# Altium footprint library Watch_Components.PcbLib: 16 footprints
Each footprint in its own frame and in the unit in brackets; x right, y up, seen from the top. Pads: shape width x height; smd on the part's side, far side on the other; paste and mask are expansions set on the pad; w line width, h text height; cw(c..) or ccw(c..) is an arc to the next point about the centre after c.
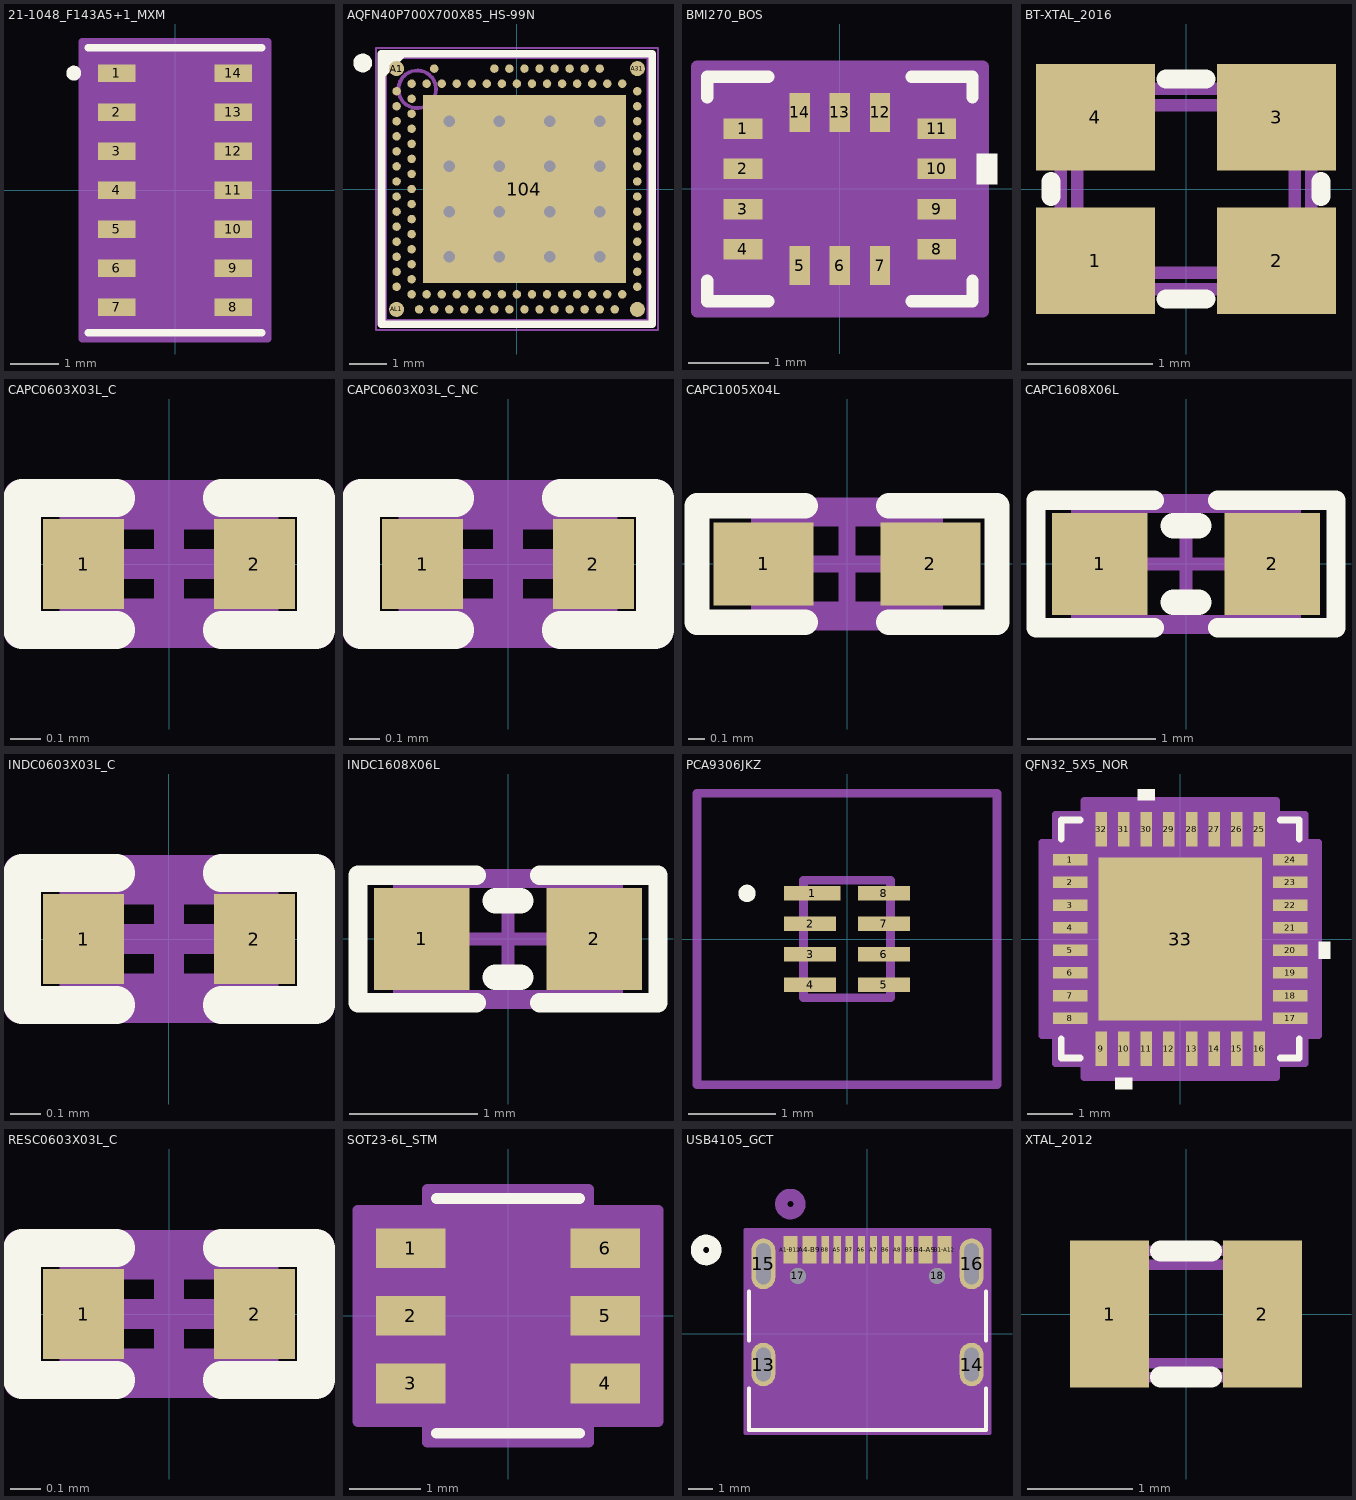
[diagram p0: the footprints below, top view; thin cyan lines are the x and y axes]

## 21-1048_F143A5+1_MXM [mil]
pads (14):
  rect 30x14 smd paste+0 mask+0: 1(-47,94.49) 2(-47,62.99) 3(-47,31.5) 4(-47,0) 5(-47,-31.5) 6(-47,-62.99) 7(-47,-94.49) 8(47,-94.49) 9(47,-62.99) 10(47,-31.5) 11(47,0) 12(47,31.5) 13(47,62.99) 14(47,94.49)
Top Overlay:
  circle w6: c-81.75,94.49 r3
  lines w6: -70,-115 70,-115 ; -70,115 70,115
Mechanical 13:
  circle w6: c-32,94.49 r3
  lines w1: -12,110 ccw(c0,110) 12,110 ; -65,-110 -65,110 65,110 65,-110 -65,-110
Mechanical 15:
  region: -75,-111.49 -75,111.49 -75,120 75,120 75,111.49 75,-111.49 75,-120 -75,-120
  lines w6: -75,-120 75,-120 75,-111.49 75,111.49 75,120 -75,120 -75,111.49 -75,-111.49 -75,-120
3D body "21-1048_F143A5+1_MXM.step": height 65.12, standoff 0, extent -65,-110 65,110

## AQFN40P700X700X85_HS-99N [mm] "AQFN, 98-Leads, Body 7.00x7.00mm, Pitch 0.40mm, Thermal Pad 5.4x5.0mm, IPC Medium Density"
height 0.85
pads (115):
  rect 5.4x5 smd paste-5: 104(0.2,0)
  round 0.4 smd paste+0.012: A1(-3.2,3.2) A31(3.2,3.2) AL1(-3.2,-3.2) AL31(3.2,-3.2)
  round 0.225 smd paste+0.012: A5(-2.2,3.2) A13(-0.6,3.2) A15(-0.2,3.2) A17(0.2,3.2) A19(0.6,3.2) A21(1,3.2) A23(1.4,3.2) A25(1.8,3.2) A27(2.2,3.2) AA1(-3.2,-1) AA31(3.2,-1) AB2(-2.8,-1.2) AC1(-3.2,-1.4) AC31(3.2,-1.4) AD2(-2.8,-1.6) AE1(-3.2,-1.8) AE31(3.2,-1.8) AF2(-2.8,-2) AG1(-3.2,-2.2) AG31(3.2,-2.2) AH2(-2.8,-2.4) AJ1(-3.2,-2.6) AJ31(3.2,-2.6) AK2(-2.8,-2.8) AK4(-2.4,-2.8) AK6(-2,-2.8) AK8(-1.6,-2.8) AK10(-1.2,-2.8) AK12(-0.8,-2.8) AK14(-0.4,-2.8) AK16(0,-2.8) AK18(0.4,-2.8) AK20(0.8,-2.8) AK22(1.2,-2.8) AK24(1.6,-2.8) AK26(2,-2.8) AK28(2.4,-2.8) AK30(2.8,-2.8) AL3(-2.6,-3.2) AL5(-2.2,-3.2) AL7(-1.8,-3.2) AL9(-1.4,-3.2) AL11(-1,-3.2) AL13(-0.6,-3.2) AL15(-0.2,-3.2) AL17(0.2,-3.2) AL19(0.6,-3.2) AL21(1,-3.2) AL23(1.4,-3.2) AL25(1.8,-3.2) AL27(2.2,-3.2) AL29(2.6,-3.2) B2(-2.8,2.8) B4(-2.4,2.8) B6(-2,2.8) B8(-1.6,2.8) B10(-1.2,2.8) B12(-0.8,2.8) B14(-0.4,2.8) B16(0,2.8) B18(0.4,2.8) B20(0.8,2.8) B22(1.2,2.8) B24(1.6,2.8) B26(2,2.8) B28(2.4,2.8) B30(2.8,2.8) C1(-3.2,2.6) C31(3.2,2.6) D2(-2.8,2.4) E1(-3.2,2.2) E31(3.2,2.2) F2(-2.8,2) G1(-3.2,1.8) G31(3.2,1.8) H2(-2.8,1.6) J1(-3.2,1.4) J31(3.2,1.4) K2(-2.8,1.2) L1(-3.2,1) L31(3.2,1) M2(-2.8,0.8) N1(-3.2,0.6) N31(3.2,0.6) P2(-2.8,0.4) R1(-3.2,0.2) R31(3.2,0.2) T2(-2.8,0) U1(-3.2,-0.2) U31(3.2,-0.2) V2(-2.8,-0.4) W1(-3.2,-0.6) W31(3.2,-0.6) Y2(-2.8,-0.8)
  rrect15% 1.1x1 on Top Paste: ""(-1.75,-1.8) ""(-1.75,-0.6) ""(-1.75,0.6) ""(-1.75,1.8) ""(-0.45,-1.8) ""(-0.45,-0.6) ""(-0.45,0.6) ""(-0.45,1.8) ""(0.85,-1.8) ""(0.85,-0.6) ""(0.85,0.6) ""(0.85,1.8) ""(2.15,-1.8) ""(2.15,-0.6) ""(2.15,0.6) ""(2.15,1.8)
via 2.2,-1.8 diameter 0.61 hole 0.305
via 0.867,-1.8 diameter 0.61 hole 0.305
via -0.467,-1.8 diameter 0.61 hole 0.305
via -1.8,-1.8 diameter 0.61 hole 0.305
via 2.2,-0.6 diameter 0.61 hole 0.305
via 0.867,-0.6 diameter 0.61 hole 0.305
via -0.467,-0.6 diameter 0.61 hole 0.305
via -1.8,-0.6 diameter 0.61 hole 0.305
via 2.2,0.6 diameter 0.61 hole 0.305
via 0.867,0.6 diameter 0.61 hole 0.305
via -0.467,0.6 diameter 0.61 hole 0.305
via -1.8,0.6 diameter 0.61 hole 0.305
via 2.2,1.8 diameter 0.61 hole 0.305
via 0.867,1.8 diameter 0.61 hole 0.305
via -0.467,1.8 diameter 0.61 hole 0.305
via -1.8,1.8 diameter 0.61 hole 0.305
Top Overlay:
  circle w0.25: c-4.1,3.35 r0.125
  region: -3,3.5 -3.5,3 -3.5,3.5
  lines w0.2: -3.6,-3.6 3.6,-3.6 3.6,3.6 -3.6,3.6 -3.6,-3.6
Mechanical 7:
  circle w0.1: c-2.65,2.65 r0.5
  lines w0.1: -3.5,-3.5 -3.5,3.5 3.5,3.5 3.5,-3.5 -3.5,-3.5
  text ".Designator" at -3.2,-0.3 h0.64
Mechanical 15:
  lines w0.05: -3.75,-3.75 -3.75,3.75 3.75,3.75 3.75,-3.75 -3.75,-3.75
  lines w0.1: -0.3,0 0.7,0 ; 0.2,-0.5 0.2,0.5
3D body "aQFN-94.sldprt": height 0.85, standoff 0, extent -3.5,-3.5 3.5,3.5

## BMI270_BOS [mil]
pads (14):
  rect 19x10 smd paste+0 mask+0: 1(-47.5,29.53) 2(-47.5,9.84) 3(-47.5,-9.84) 4(-47.5,-29.53) 8(47.5,-29.53) 9(47.5,-9.84) 10(47.5,9.84) 11(47.5,29.53)
  rect 10x19 smd paste+0 mask+0: 5(-19.68,-37.5) 6(0,-37.5) 7(19.68,-37.5) 12(19.68,37.5) 13(0,37.5) 14(-19.68,37.5)
Top Overlay:
  region: 67,17.34 77,17.34 77,2.34 67,2.34
  lines w6: -65,-44.9 -65,-55 -35.06,-55 ; -65,44.9 -65,55 -35.06,55 ; 35.06,-55 65,-55 65,-44.9 ; 35.06,55 65,55 65,44.9
Mechanical 13:
  lines w1: -60,0 -10,50 ; -60,-50 60,-50 60,50 -60,50 -60,-50 ; -60,-34.53 -60,-24.53 -57,-24.53 -57,-34.53 -60,-34.53 ; -60,-14.84 -60,-4.84 -57,-4.84 -57,-14.84 -60,-14.84 ; -60,4.84 -60,14.84 -57,14.84 -57,4.84 -60,4.84 ; -60,24.53 -60,34.53 -57,34.53 -57,24.53 -60,24.53 ; -24.68,-50 -14.69,-50 -14.69,-47 -24.68,-47 -24.68,-50 ; -24.68,47 -14.69,47 -14.69,50 -24.68,50 -24.68,47 ; -5,-50 5,-50 5,-47 -5,-47 -5,-50 ; -5,47 5,47 5,50 -5,50 -5,47 ; 14.69,-50 24.68,-50 24.68,-47 14.69,-47 14.69,-50 ; 14.69,47 24.68,47 24.68,50 14.69,50 14.69,47 ; 57,-34.53 60,-34.53 60,-24.53 57,-24.53 57,-34.53 ; 57,-14.84 60,-14.84 60,-4.84 57,-4.84 57,-14.84 ; 57,4.84 60,4.84 60,14.84 57,14.84 57,4.84 ; 57,24.53 60,24.53 60,34.53 57,34.53 57,24.53
  text "*" at -50.5,14.37 h50
Mechanical 15:
  region: -34.69,-60 -70,-60 -70,-44.53 -70,44.53 -70,60 -34.69,60 34.69,60 70,60 70,44.53 70,-44.53 70,-60 34.69,-60
  lines w6: -70,-60 -70,-44.53 -70,44.53 -70,60 -34.69,60 34.69,60 70,60 70,44.53 70,-44.53 70,-60 34.69,-60 -34.69,-60 -70,-60
3D body "BMI270_BOS.step": height 34.09, standoff 0, extent -60,-50 60,50

## BT-XTAL_2016 [mm]
pads (4):
  rect 0.95x0.85 smd: 1(-0.725,-0.575) 2(0.725,-0.575) 3(0.725,0.575) 4(-0.725,0.575)
Top Overlay:
  lines w0.152: -1.08,-0.06 -1.08,0.06 ; -0.16,-0.88 0.16,-0.88 ; -0.16,0.88 0.16,0.88 ; 1.08,-0.06 1.08,0.06
Mechanical 7:
  lines w0.1: -1,-0.7 cw(c-1,-0.8) -0.9,-0.8 0.9,-0.8 cw(c1,-0.8) 1,-0.7 1,0.7 cw(c1,0.8) 0.9,0.8 -0.9,0.8 cw(c-1,0.8) -1,0.7 -1,-0.7 ; -0.87,-0.57 ccw(c-0.77,-0.57) -0.77,-0.67 0.77,-0.67 ccw(c0.77,-0.57) 0.87,-0.57 0.87,0.57 ccw(c0.77,0.57) 0.77,0.67 -0.77,0.67 ccw(c-0.77,0.57) -0.87,0.57 -0.87,-0.57
3D body "User Library-GeyerElectronics_KX5.step": height 0.56, standoff 0, extent -1.05,-0.85 1.05,0.85
3D body: height 0.56, standoff 0.15, extent -0.7,-0.65 0.7,0.65

## CAPC0603X03L_C [mm]
pads (2):
  rect 0.27x0.3 smd: 1(-0.285,0) 2(0.285,0)
Top Overlay:
  lines w0.125: -0.175,-0.22 -0.49,-0.22 -0.49,0.22 -0.175,0.22 ; 0.175,-0.22 0.49,-0.22 0.49,0.22 0.175,0.22
Mechanical 7:
  lines w0.1: -0.315,-0.165 -0.315,0.165 0.315,0.165 0.315,-0.165 -0.315,-0.165
Mechanical 15:
  lines w0.1: -0.165,0 0.165,0 ; 0,-0.165 0,0.165 ; -0.5,-0.23 -0.5,0.23 0.5,0.23 0.5,-0.23 -0.5,-0.23
3D body "User Library-0201(0603M) Cap.step": height 0.3, standoff -0.01, extent -0.305,-0.152 0.305,0.153

## CAPC0603X03L_C_NC [mm]
pads (2):
  rect 0.27x0.3 smd mask+0.05: 1(-0.285,0) 2(0.285,0)
Top Overlay:
  lines w0.125: -0.175,-0.22 -0.49,-0.22 -0.49,0.22 -0.175,0.22 ; 0.175,-0.22 0.49,-0.22 0.49,0.22 0.175,0.22
Mechanical 7:
  lines w0.1: -0.315,-0.165 0.315,-0.165 0.315,0.165 -0.315,0.165 -0.315,-0.165
Mechanical 15:
  lines w0.1: -0.165,0 0.165,0 ; 0,-0.165 0,0.165 ; -0.5,-0.23 0.5,-0.23 0.5,0.23 -0.5,0.23 -0.5,-0.23

## CAPC1005X04L [mm]
pads (2):
  rect 0.6x0.5 smd: 1(-0.5,0) 2(0.5,0)
Top Overlay:
  lines w0.152: -0.25,-0.35 -0.9,-0.35 -0.9,0.35 -0.25,0.35 ; 0.25,-0.35 0.9,-0.35 0.9,0.35 0.25,0.35
Mechanical 7:
  lines w0.1: -0.525,-0.275 -0.525,0.275 0.525,0.275 0.525,-0.275 -0.525,-0.275
Mechanical 15:
  lines w0.1: -0.275,0 0.275,0 ; 0,-0.275 0,0.275 ; -0.9,-0.35 0.9,-0.35 0.9,0.35 -0.9,0.35 -0.9,-0.35
3D body "User Library-0402(1005M) Cap.step": height 0.5, standoff -0.01, extent -0.508,-0.254 0.508,0.254

## CAPC1608X06L [mm]
pads (2):
  rect 0.75x0.8 smd: 1(-0.675,0) 2(0.675,0)
Top Overlay:
  lines w0.152: -0.25,-0.5 -1.175,-0.5 -1.175,0.5 -0.25,0.5 ; 0.25,-0.5 1.175,-0.5 1.175,0.5 0.25,0.5
  lines w0.2: -0.1,-0.3 0.1,-0.3 ; -0.1,0.3 0.1,0.3
Mechanical 7:
  lines w0.1: -0.85,-0.45 0.85,-0.45 0.85,0.45 -0.85,0.45 -0.85,-0.45
Mechanical 15:
  lines w0.1: -0.45,0 0.45,0 ; 0,-0.45 0,0.45 ; -1.175,-0.5 -1.175,0.5 1.175,0.5 1.175,-0.5 -1.175,-0.5
3D body "User Library-Chip Capacitor 0603.step": height 0.8, standoff 0, extent -0.8,-0.43 0.8,0.43

## INDC0603X03L_C [mm]
pads (2):
  rect 0.27x0.3 smd: 1(-0.285,0) 2(0.285,0)
Top Overlay:
  lines w0.125: -0.175,-0.22 -0.49,-0.22 -0.49,0.22 -0.175,0.22 ; 0.175,-0.22 0.49,-0.22 0.49,0.22 0.175,0.22
Mechanical 7:
  lines w0.1: -0.315,-0.165 0.315,-0.165 0.315,0.165 -0.315,0.165 -0.315,-0.165
Mechanical 15:
  lines w0.1: -0.165,0 0.165,0 ; 0,-0.165 0,0.165 ; -0.5,-0.23 0.5,-0.23 0.5,0.23 -0.5,0.23 -0.5,-0.23
3D body "User Library-smt_inductor-0201.step": height 0.26, standoff -0.01, extent -0.31,-0.16 0.31,0.16

## INDC1608X06L [mm]
pads (2):
  rect 0.75x0.8 smd: 1(-0.675,0) 2(0.675,0)
Top Overlay:
  lines w0.152: -0.25,-0.5 -1.175,-0.5 -1.175,0.5 -0.25,0.5 ; 0.25,-0.5 1.175,-0.5 1.175,0.5 0.25,0.5
  lines w0.2: -0.1,-0.3 0.1,-0.3 ; -0.1,0.3 0.1,0.3
Mechanical 7:
  lines w0.1: -0.85,-0.45 0.85,-0.45 0.85,0.45 -0.85,0.45 -0.85,-0.45
Mechanical 15:
  lines w0.1: -0.45,0 0.45,0 ; 0,-0.45 0,0.45 ; -1.175,-0.5 -1.175,0.5 1.175,0.5 1.175,-0.5 -1.175,-0.5
3D body "User Library-Chip Inductor.step": height 0.8, standoff 0, extent -0.8,-0.475 0.8,0.475

## PCA9306JKZ [mm]
pads (8):
  rect 0.65x0.17 smd: 1(-0.4,0.525)
  rect 0.6x0.17 smd: 2(-0.425,0.175) 3(-0.425,-0.175) 4(-0.425,-0.525) 5(0.425,-0.525) 6(0.425,-0.175) 7(0.425,0.175) 8(0.425,0.525)
Top Overlay:
  lines w0.1: -1.2,0.525 ccw(c-1.15,0.525) -1.1,0.525 ccw(c-1.15,0.525) -1.2,0.525
Mechanical 15:
  lines w0.1: -0.5,-0.675 0.5,-0.675 0.5,0.675 -0.5,0.675 -0.5,-0.675
Mechanical 20:
  lines w0.1: -1.725,-1.675 1.725,-1.675 1.725,1.675 -1.725,1.675 -1.725,-1.675

## QFN32_5X5_NOR [mil]
pads (33):
  rect 30x10 smd paste+0 mask+0: 1(-95.5,68.9) 2(-95.5,49.21) 3(-95.5,29.53) 4(-95.5,9.84) 5(-95.5,-9.84) 6(-95.5,-29.53) 7(-95.5,-49.21) 8(-95.5,-68.9) 17(95.5,-68.9) 18(95.5,-49.21) 19(95.5,-29.53) 20(95.5,-9.84) 21(95.5,9.84) 22(95.5,29.53) 23(95.5,49.21) 24(95.5,68.9)
  rect 10x30 smd paste+0 mask+0: 9(-68.9,-95.5) 10(-49.21,-95.5) 11(-29.53,-95.5) 12(-9.84,-95.5) 13(9.84,-95.5) 14(29.53,-95.5) 15(49.21,-95.5) 16(68.9,-95.5) 25(68.9,95.5) 26(49.21,95.5) 27(29.53,95.5) 28(9.84,95.5) 29(-9.84,95.5) 30(-29.53,95.5) 31(-49.21,95.5) 32(-68.9,95.5)
  rect 142x142 smd paste-71 mask+0: 33(0,0)
Top Overlay:
  region: -41.71,-120.5 -56.71,-120.5 -56.71,-130.5 -41.71,-130.5
  region: 120.5,-2.34 130.5,-2.34 130.5,-17.34 120.5,-17.34
  region: -22.03,120.5 -37.03,120.5 -37.03,130.5 -22.03,130.5
  lines w6: -103.5,-87 -103.5,-103.5 -87,-103.5 ; -103.5,87 -103.5,103.5 -87,103.5 ; 87,-103.5 103.5,-103.5 103.5,-87 ; 87,103.5 103.5,103.5 103.5,87
Top Paste:
  region: -3.94,67.06 -67.06,67.06 -67.06,3.94 -3.94,3.94
  region: -3.94,-3.94 -67.06,-3.94 -67.06,-67.06 -3.94,-67.06
  region: 67.06,67.06 3.94,67.06 3.94,3.94 67.06,3.94
  region: 67.06,-3.94 3.94,-3.94 3.94,-67.06 67.06,-67.06
Mechanical 13:
  lines w1: -98.5,48.5 -48.5,98.5 ; -98.5,-98.5 98.5,-98.5 98.5,98.5 -98.5,98.5 -98.5,-98.5 ; -98.5,-74.9 -98.5,-62.9 -98.5,-74.9 ; -98.5,-55.21 -98.5,-43.21 -98.5,-55.21 ; -98.5,-35.53 -98.5,-23.53 -98.5,-35.53 ; -98.5,-15.84 -98.5,-3.84 -98.5,-15.84 ; -98.5,3.84 -98.5,15.84 -98.5,3.84 ; -98.5,23.53 -98.5,35.53 -98.5,23.53 ; -98.5,43.21 -98.5,55.21 -98.5,43.21 ; -98.5,62.9 -98.5,74.9 -98.5,62.9 ; -74.9,-98.5 -62.9,-98.5 -74.9,-98.5 ; -74.9,98.5 -62.9,98.5 -74.9,98.5 ; -55.21,-98.5 -43.21,-98.5 -55.21,-98.5 ; -55.21,98.5 -43.21,98.5 -55.21,98.5 ; -35.53,-98.5 -23.53,-98.5 -35.53,-98.5 ; -35.53,98.5 -23.53,98.5 -35.53,98.5 ; -15.84,-98.5 -3.84,-98.5 -15.84,-98.5 ; -15.84,98.5 -3.84,98.5 -15.84,98.5 ; 3.84,-98.5 15.84,-98.5 3.84,-98.5 ; 3.84,98.5 15.84,98.5 3.84,98.5 ; 23.53,-98.5 35.53,-98.5 23.53,-98.5 ; 23.53,98.5 35.53,98.5 23.53,98.5 ; 43.21,-98.5 55.21,-98.5 43.21,-98.5 ; 43.21,98.5 55.21,98.5 43.21,98.5 ; 62.9,-98.5 74.9,-98.5 62.9,-98.5 ; 62.9,98.5 74.9,98.5 62.9,98.5 ; 98.5,-74.9 98.5,-62.9 98.5,-74.9 ; 98.5,-55.21 98.5,-43.21 98.5,-55.21 ; 98.5,-35.53 98.5,-23.53 98.5,-35.53 ; 98.5,-15.84 98.5,-3.84 98.5,-15.84 ; 98.5,3.84 98.5,15.84 98.5,3.84 ; 98.5,23.53 98.5,35.53 98.5,23.53 ; 98.5,43.21 98.5,55.21 98.5,43.21 ; 98.5,62.9 98.5,74.9 98.5,62.9
  text "*" at -93,53.74 h50
Mechanical 15:
  region: -83.9,-108.5 -108.5,-108.5 -108.5,-83.9 -120.5,-83.9 -120.5,83.9 -108.5,83.9 -108.5,108.5 -83.9,108.5 -83.9,120.5 83.9,120.5 83.9,108.5 108.5,108.5 108.5,83.9 120.5,83.9 120.5,-83.9 108.5,-83.9 108.5,-108.5 83.9,-108.5 83.9,-120.5 -83.9,-120.5
  lines w6: -120.5,-83.9 -108.5,-83.9 -108.5,-108.5 -83.9,-108.5 -83.9,-120.5 83.9,-120.5 83.9,-108.5 108.5,-108.5 108.5,-83.9 120.5,-83.9 120.5,83.9 108.5,83.9 108.5,108.5 83.9,108.5 83.9,120.5 -83.9,120.5 -83.9,108.5 -108.5,108.5 -108.5,83.9 -120.5,83.9 -120.5,-83.9
3D body "QFN32_5X5_NOR.step": height 35.12, standoff 0, extent -98.5,-98.5 98.5,98.5

## RESC0603X03L_C [mm]
pads (2):
  rect 0.27x0.3 smd: 1(-0.285,0) 2(0.285,0)
Top Overlay:
  lines w0.125: -0.175,-0.22 -0.49,-0.22 -0.49,0.22 -0.175,0.22 ; 0.175,-0.22 0.49,-0.22 0.49,0.22 0.175,0.22
Mechanical 7:
  lines w0.1: -0.315,-0.165 0.315,-0.165 0.315,0.165 -0.315,0.165 -0.315,-0.165
Mechanical 15:
  lines w0.1: -0.165,0 0.165,0 ; 0,-0.165 0,0.165 ; -0.5,-0.23 0.5,-0.23 0.5,0.23 -0.5,0.23 -0.5,-0.23
3D body "User Library-res0201-1.step": height 0.23, standoff 0, extent -0.3,-0.15 0.3,0.15

## SOT23-6L_STM [mil]
pads (6):
  rect 38.5x22 smd paste+0 mask+0: 1(-53.75,37.4) 2(-53.75,0) 3(-53.75,-37.4) 4(53.75,-37.4) 5(53.75,0) 6(53.75,37.4)
Top Overlay:
  lines w6: -39.5,-65 39.5,-65 ; -39.5,65 39.5,65
Mechanical 13:
  lines w0: -12,60 ccw(c0,60) 12,60
  lines w1: -59,-47.4 -59,-27.4 -34.5,-27.4 -34.5,-47.4 -59,-47.4 ; -59,-10 -59,10 -34.5,10 -34.5,-10 -59,-10 ; -59,27.4 -59,47.4 -34.5,47.4 -34.5,27.4 -59,27.4 ; -34.5,-60 34.5,-60 34.5,60 -34.5,60 -34.5,-60 ; 34.5,-47.4 34.5,-27.4 59,-27.4 59,-47.4 34.5,-47.4 ; 34.5,-10 34.5,10 59,10 59,-10 34.5,-10 ; 34.5,27.4 34.5,47.4 59,47.4 59,27.4 34.5,27.4
  text "*" at -32,7 h50
Mechanical 15:
  region: -44.5,-58.4 -83,-58.4 -83,58.4 -44.5,58.4 -44.5,70 44.5,70 44.5,58.4 83,58.4 83,-58.4 44.5,-58.4 44.5,-70 -44.5,-70
  lines w6: -83,-58.4 -83,58.4 -44.5,58.4 -44.5,70 44.5,70 44.5,58.4 83,58.4 83,-58.4 44.5,-58.4 44.5,-70 -44.5,-70 -44.5,-58.4 -83,-58.4
3D body "SOT23-6L_STM.step": height 57.09, standoff 0, extent -59.02,-60 59.02,60

## USB4105_GCT [mil]
pads (18):
  oval 39x71 / inner oval 39x71 / far side round 60 hole 55 slot 24 at 0 deg paste-99999 mask-35.5: 13(-170.08,-49.97) 14(170.08,-49.97)
  oval 39x83 / inner oval 39x83 / far side round 60 hole 67 slot 24 at 0 deg paste-99999 mask-41.5: 15(-170.08,114.6) 16(170.08,114.6)
  round 26 / inner round 60 / far side round 26 hole 26 unplated paste-99999 mask+0: 17(-113.78,94.91) 18(113.78,94.91)
  rect 23x45 smd paste-22.5 mask-22.5: A1-B12(-125.98,137.24) A4-B9(-94.49,137.24) B1-A12(125.98,137.24) B4-A9(94.49,137.24)
  rect 12x45 smd paste+0 mask+0: A5(-49.21,137.24) A6(-9.84,137.24) A7(9.84,137.24) A8(49.21,137.24) B5(68.9,137.24) B6(29.53,137.24) B7(-29.53,137.24) B8(-68.9,137.24)
Top Overlay:
  circle w20: c-263.5,137.24 r15
  lines w6: -193.5,-88.64 -193.5,-157 193.5,-157 193.5,-88.64 ; -193.5,-11.29 -193.5,69.92 ; 193.5,-11.29 193.5,69.92
Bottom Overlay:
  circle w20: c-263.5,137.24 r15
Mechanical 13:
  circle w20: c-125.98,212.24 r15
  lines w1: -188.5,-152 -188.5,152 188.5,152 188.5,-152 -188.5,-152
Mechanical 15:
  region: 199.58,169.74 -199.58,169.74 -199.58,-162 199.58,-162
  lines w6: -199.58,-162 199.58,-162 199.58,169.74 -199.58,169.74 -199.58,-162

## XTAL_2012 [mm]
pads (2):
  rect 0.75x1.4 smd: 1(-0.725,0) 2(0.725,0)
Top Overlay:
  lines w0.2: -0.24,-0.6 0.24,-0.6 ; -0.24,0.6 0.24,0.6
Mechanical 7:
  lines w0.1: -1,-0.5 cw(c-1,-0.6) -0.9,-0.6 0.9,-0.6 cw(c1,-0.6) 1,-0.5 1,0.5 cw(c1,0.6) 0.9,0.6 -0.9,0.6 cw(c-1,0.6) -1,0.5 -1,-0.5 ; -0.87,-0.37 ccw(c-0.77,-0.37) -0.77,-0.47 0.77,-0.47 ccw(c0.77,-0.37) 0.87,-0.37 0.87,0.37 ccw(c0.77,0.37) 0.77,0.47 -0.77,0.47 ccw(c-0.77,0.37) -0.87,0.37 -0.87,-0.37
3D body: height 0.6, standoff 0.15, extent -0.825,-0.4 0.825,0.4
3D body "User Library-ABS06.STEP": height 0.6, standoff 0, extent -1,-0.61 1,0.61